# EAGLE library part RASPBERRYPI-GPIO (library SparkFun-Boards)
RASPBERRY PI I/O HEADER As defined for the Revistion 2 Pi.
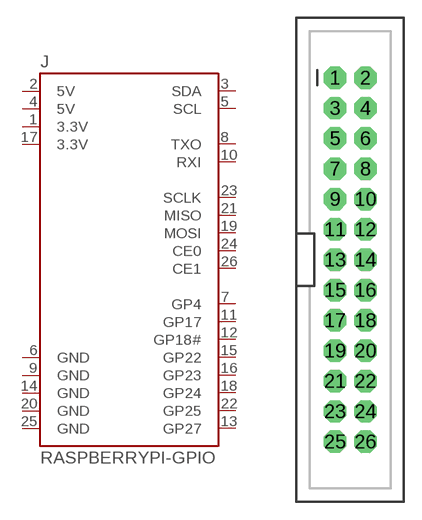
[diagram p14: symbol with the pads of 2X13-SHROUDED; footprint 2X13-SHROUDED]

Designator prefix J

## RASPBERRYPI-GPIOPTH (DIST: sparkfun; DIST_ID: PRT-11490)  [2X13-SHROUDED]
1  3.3V  pwr
2  5V  pwr
3  SDA
4  5V  pwr
5  SCL
6  GND  pwr
7  GP4
8  TXO  out
9  GND  pwr
10  RXI  in
11  GP17
12  GP18#
13  GP27
14  GND  pwr
15  GP22
16  GP23
17  3.3V  pwr
18  GP24
19  MOSI  out
20  GND  pwr
21  MISO  in
22  GP25
23  SCLK  out
24  CE0  out
25  GND  pwr
26  CE1  out

## Footprint 2X13-SHROUDED (pad centres in mm)
drill 1.016 pad 1.88 octagon: 1 -1.27,15.24; 2 1.27,15.24; 3 -1.27,12.7; 4 1.27,12.7; 5 -1.27,10.16; 6 1.27,10.16; 7 -1.27,7.62; 8 1.27,7.62; 9 -1.27,5.08; 10 1.27,5.08; 11 -1.27,2.54; 12 1.27,2.54; 13 -1.27,0; 14 1.27,0; 15 -1.27,-2.54; 16 1.27,-2.54; 17 -1.27,-5.08; 18 1.27,-5.08; 19 -1.27,-7.62; 20 1.27,-7.62; 21 -1.27,-10.16; 22 1.27,-10.16; 23 -1.27,-12.7; 24 1.27,-12.7; 25 -1.27,-15.24; 26 1.27,-15.24